# EAGLE library part M5-68T100 (library amd-mach)
AMD MACH SERIES
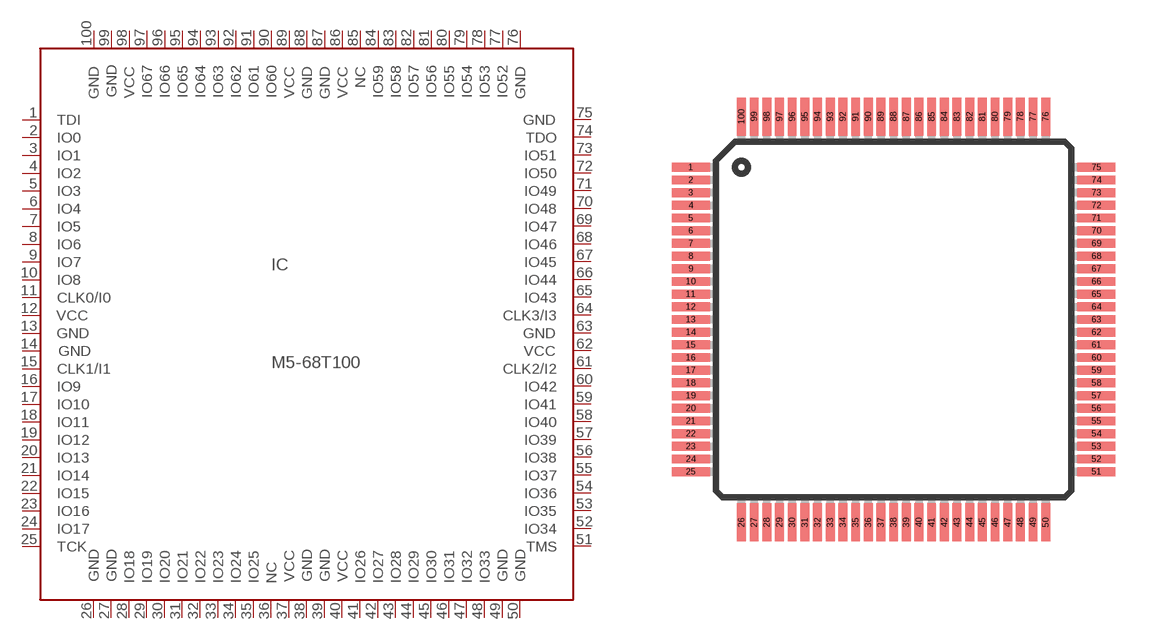
[diagram p10: symbol with the pads of TQFP100; footprint TQFP100]

Designator prefix IC

## M5-68T100  [TQFP100]
1  TDI  in
2  IO0
3  IO1
4  IO2
5  IO3
6  IO4
7  IO5
8  IO6
9  IO7
10  IO8
11  CLK0/I0  in
12  VCC  pwr
13  GND  pwr
14  GND  pwr
15  CLK1/I1  in
16  IO9
17  IO10
18  IO11
19  IO12
20  IO13
21  IO14
22  IO15
23  IO16
24  IO17
25  TCK  in
26  GND  pwr
27  GND  pwr
28  IO18
29  IO19
30  IO20
31  IO21
32  IO22
33  IO23
34  IO24
35  IO25
36  NC  nc
37  VCC  pwr
38  GND  pwr
39  GND  pwr
40  VCC  pwr
41  IO26
42  IO27
43  IO28
44  IO29
45  IO30
46  IO31
47  IO32
48  IO33
49  GND  pwr
50  GND  pwr
51  TMS  in
52  IO34
53  IO35
54  IO36
55  IO37
56  IO38
57  IO39
58  IO40
59  IO41
60  IO42
61  CLK2/I2  in
62  VCC  pwr
63  GND  pwr
64  CLK3/I3  in
65  IO43
66  IO44
67  IO45
68  IO46
69  IO47
70  IO48
71  IO49
72  IO50
73  IO51
74  TDO  out
75  GND  pwr
76  GND  pwr
77  IO52
78  IO53
79  IO54
80  IO55
81  IO56
82  IO57
83  IO58
84  IO59
85  NC1  nc
86  VCC  pwr
87  GND  pwr
88  GND  pwr
89  VCC  pwr
90  IO60
91  IO61
92  IO62
93  IO63
94  IO64
95  IO65
96  IO66
97  IO67
98  VCC  pwr
99  GND  pwr
100  GND  pwr

## Footprint TQFP100 (pad centres in mm)
THIN QUAD FLAT PACK
smd 1.5 x 0.35: 1 -8,6; 2 -8,5.5; 3 -8,5; 4 -8,4.5; 5 -8,4; 6 -8,3.5; 7 -8,3; 8 -8,2.5; 9 -8,2; 10 -8,1.5; 11 -8,1; 12 -8,0.5; 13 -8,0; 14 -8,-0.5; 15 -8,-1; 16 -8,-1.5; 17 -8,-2; 18 -8,-2.5; 19 -8,-3; 20 -8,-3.5; 21 -8,-4; 22 -8,-4.5; 23 -8,-5; 24 -8,-5.5; 25 -8,-6; 51 8,-6; 52 8,-5.5; 53 8,-5; 54 8,-4.5; 55 8,-4; 56 8,-3.5; 57 8,-3; 58 8,-2.5; 59 8,-2; 60 8,-1.5; 61 8,-1; 62 8,-0.5; 63 8,0; 64 8,0.5; 65 8,1; 66 8,1.5; 67 8,2; 68 8,2.5; 69 8,3; 70 8,3.5; 71 8,4; 72 8,4.5; 73 8,5; 74 8,5.5; 75 8,6
smd 0.35 x 1.5: 26 -6,-8; 27 -5.5,-8; 28 -5,-8; 29 -4.5,-8; 30 -4,-8; 31 -3.5,-8; 32 -3,-8; 33 -2.5,-8; 34 -2,-8; 35 -1.5,-8; 36 -1,-8; 37 -0.5,-8; 38 0,-8; 39 0.5,-8; 40 1,-8; 41 1.5,-8; 42 2,-8; 43 2.5,-8; 44 3,-8; 45 3.5,-8; 46 4,-8; 47 4.5,-8; 48 5,-8; 49 5.5,-8; 50 6,-8; 76 6,8; 77 5.5,8; 78 5,8; 79 4.5,8; 80 4,8; 81 3.5,8; 82 3,8; 83 2.5,8; 84 2,8; 85 1.5,8; 86 1,8; 87 0.5,8; 88 0,8; 89 -0.5,8; 90 -1,8; 91 -1.5,8; 92 -2,8; 93 -2.5,8; 94 -3,8; 95 -3.5,8; 96 -4,8; 97 -4.5,8; 98 -5,8; 99 -5.5,8; 100 -6,8